# Altium schematic symbol library boxer_pas.SchLib: 33 symbols
Pins are listed as number, name and electrical type; pins without a type are passive.

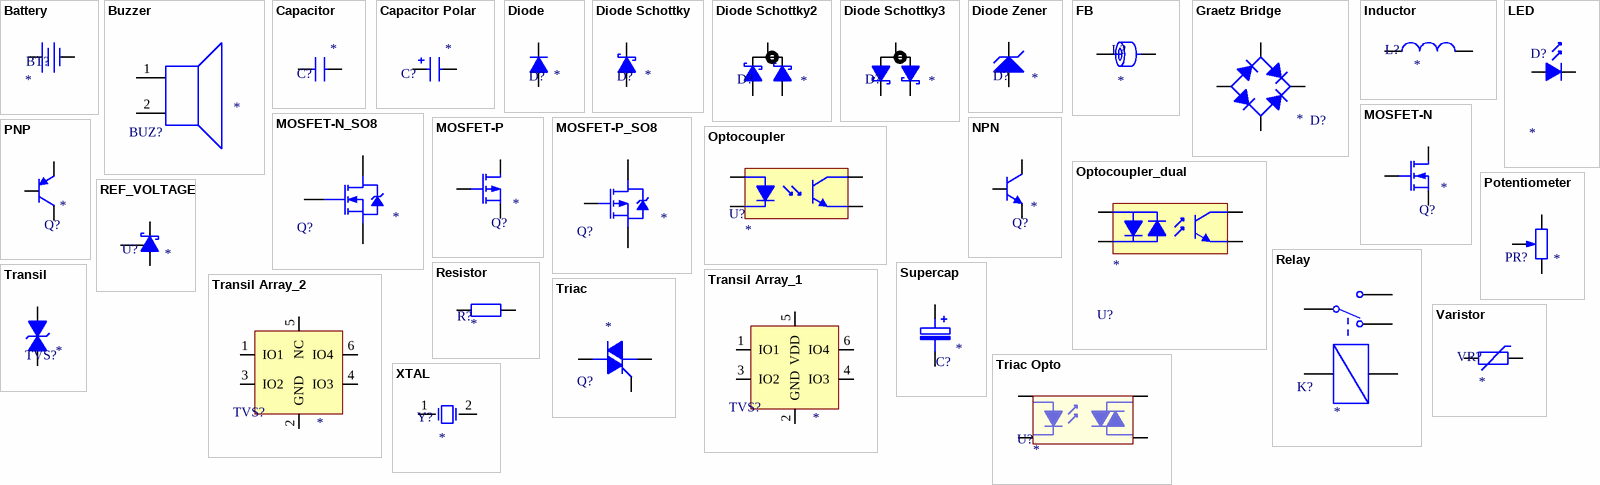
[diagram p0: symbols Battery to XTAL]

## Battery
designator BT?
Multicell Battery; Value: *
footprint CH075-2032 (Battery Holder, Size: CR2023)
pins: 1 +, 2 -

## Buzzer
designator BUZ?
Value: *
footprint buzzer 7.6mm
pins: 1, 2

## Capacitor
designator C?  (value not drawn)
Value: *
simulation model CAP (Capacitor)
signal-integrity model Cap
footprint C_0805 (Chip Capacitor, Body 2.0x1.3mm, IPC High Density)
footprint C_1210 (Chip Capacitor, Body 3.2x2.5mm, IPC High Density)
pins: 1, 2

## Capacitor Polar
designator C?
Polarized Capacitor; Value: *
simulation model CAP (Capacitor)
signal-integrity model Cap Pol
footprint C_SMA (TAJ Series Standard Tantalum)
footprint C_SMB
footprint C_SMC (TAJ Series Standard Tantalum)
pins: 1, 2
1 alternate drawing of the same symbol

## Diode
designator D?
Diode; Value: *
simulation model DIODE (Diode)
signal-integrity model Diode
footprint D_SMA
footprint D_SMC (DO-214-AB/SMC; 2 C-Bend Leads; Body 7.9 x 5.9 mm, inc. leads (LxW))
footprint D_SMB
footprint SOD123F
footprint D_1206
pins: 1 A, 2 K

## Diode Schottky
designator D?, comment Schottky Diode  (value not drawn)
Value: *
simulation model SKYDIODE (Diode)
signal-integrity model D Schottky
footprint D_1206
footprint SOD123F
footprint D_SMA
footprint D_SMB
footprint D_SMC (DO-214-AB/SMC; 2 C-Bend Leads; Body 7.9 x 5.9 mm, inc. leads (LxW))
pins: 1 A, 2 K

## Diode Schottky2
designator D?
dual Schottky diode common cathode; Value: *
footprint SOT-23 (SOT23, 3-Leads, Body 2.9x1.3mm, Pitch 0.95mm, Lead Span 2.5mm, IPC Medium Density)
pins: 1 A, 2 A, 3 K

## Diode Schottky3
designator D?
dual Schottky diode common anode; Value: *
footprint SOT-23 (SOT23, 3-Leads, Body 2.9x1.3mm, Pitch 0.95mm, Lead Span 2.5mm, IPC Medium Density)
pins: 1 A, 2 A, 3 K

## Diode Zener
designator D?
Zener Diode; Value: *
simulation model ZENER (Diode)
signal-integrity model D Zener
footprint D_SMA
footprint D_SMB
footprint D_SMC (DO-214-AB/SMC; 2 C-Bend Leads; Body 7.9 x 5.9 mm, inc. leads (LxW))
footprint SOD123F
footprint D_1206
pins: 1 A, 2 K

## FB
designator L?  (value not drawn)
Ferrite Bead; Value: *
simulation model Inductor
signal-integrity model Inductor
footprint L_0805 (Chip Inductor Body 2.0x1.2mm, IPC Medium Density)
pins: 1, 2

## Graetz Bridge
designator D?  (value not drawn)
Full Wave Diode Bridge; Value: *
footprint DIP-4 (DIP; 4 Leads; Row Spacing 7.62 mm; Pitch 2.54 mm)
simulation model BRIDGE (Spice Subcircuit)
footprint DB10x
pins: 1 K, 2 C, 3 A, 4 C

## Inductor
designator L?
Inductor; Value: *
footprint L_0805 (Chip Inductor Body 2.0x1.2mm, IPC Medium Density)
simulation model INDUCTOR (Inductor)
signal-integrity model Inductor
footprint L_1206
pins: 1, 2

## LED
designator D?  (value not drawn)
Typical RED, GREEN, YELLOW, AMBER GaAs LED; Value: *
footprint LED_0805 (LED; SMD; 0805;)
simulation model LED2 (Diode)
pins: 1 A, 2 K

## MOSFET-N
designator Q?
N-Channel MOSFET; Value: *
footprint SOT-23 (SOT23, 3-Leads, Body 2.9x1.3mm, Pitch 0.95mm, Lead Span 2.5mm, IPC Medium Density)
simulation model NMOS (MOSFET-N)
footprint SO8
pins: 1 G, 2 S, 3 D

## MOSFET-N_SO8
designator Q?
N-Channel MOSFET; Value: *
footprint SO8
pins: 1 S, 2 S, 3 S, 4 G, 5 D, 6 D, 7 D, 8 D

## MOSFET-P
designator Q?
P-Channel MOSFET; Value: *
footprint SO6
simulation model PMOS (MOSFET-P)
footprint SOT-23 (SOT23, 3-Leads, Body 2.9x1.3mm, Pitch 0.95mm, Lead Span 2.5mm, IPC Medium Density)
pins: 1 G, 2 S, 3 D

## MOSFET-P_SO8
designator Q?
P-Channel MOSFET; Value: *
footprint SO8
pins: 1 S, 2 S, 3 S, 4 G, 5 D, 6 D, 7 D, 8 D

## NPN
designator Q?
NPN Bipolar Transistor; Value: *
footprint TO-92 (TO, Flat Index; 3 In-Line, Axial Leads; Body Dia. 4.6mm; Leads 0.41 x 0.39 mm (max))
simulation model NPN
signal-integrity model NPN
footprint SOT-23 (SOT23, 3-Leads, Body 2.9x1.3mm, Pitch 0.95mm, Lead Span 2.5mm, IPC Medium Density)
pins: 1 B, 2 E, 3 C

## Optocoupler
designator U?
Optocoupler; Value: *
footprint DIP-4 (DIP; 4 Leads; Row Spacing 7.62 mm; Pitch 2.54 mm)
footprint SOP6 (Small Outline; 6 Leads; Body Width 4.4 mm; Pitch 1.27 mm)
footprint SO4
pins: 1 A, 2 K, 3 C, 4 E

## Optocoupler_dual
designator U?
dual Optocoupler; Value: *
footprint DIP-4 (DIP; 4 Leads; Row Spacing 7.62 mm; Pitch 2.54 mm)
simulation model OPTOISO (Spice Subcircuit)
pins: 1 A, 2 K, 4 E, 5 C

## PNP
designator Q?
PNP; Value: *
simulation model PNP
signal-integrity model PNP
footprint SOT-23 (SOT23, 3-Leads, Body 2.9x1.3mm, Pitch 0.95mm, Lead Span 2.5mm, IPC Medium Density)
footprint TO-92 (TO, Flat Index; 3 In-Line, Axial Leads; Body Dia. 4.5mm; Leads 0.51 x 0.48 mm (max))
pins: 1 B, 2 E, 3 C

## Potentiometer
designator PR?
3 pin Potentiometer
footprint 1804 potentiometer
pins: 1 BOT, 2 TAP, 3 TOP

## REF_VOLTAGE
designator U?
Value: *
footprint SOT-23 (SOT23, 3-Leads, Body 2.9x1.3mm, Pitch 0.95mm, Lead Span 2.5mm, IPC Medium Density)
pins: 1 REF, 2 K, 3 A

## Relay
designator K?
Electromagnetic Relay; Value: *
footprint RM32N
pins: 1 A1, 2 A2, 3 12, 4 11, 5 14

## Resistor
designator R?
Resistor; Value: *
footprint R_0805 (Chip Resistor, Body 2.0x1.2mm, IPC Medium Density)
simulation model RESISTOR (Resistor)
signal-integrity model Res
footprint R_1206
pins: 1, 2

## Supercap
designator C?
Super Capacitor
footprint CAPPR5-12.5x25 (Capacitor, Electrolytic, Radial; Body 12.5 x 25 mm (Dia.xH typ); Pin Spacing 5 mm (typ))
pins: 1, 2

## Transil
designator TVS?
Transil; Value: *
footprint D_1206
footprint SOD123F
footprint D_SMA
footprint D_SMB
footprint D_SMC (DO-214-AB/SMC; 2 C-Bend Leads; Body 7.9 x 5.9 mm, inc. leads (LxW))
pins: 1 A, 2 K

## Transil Array_1
designator TVS?
TVS Array; Value: *
footprint SOT-363
pins: 1 IO1, 2 GND (power), 3 IO2, 4 IO3, 5 VDD (power), 6 IO4

## Transil Array_2
designator TVS?
TVS Array; Value: *
footprint SOT23-6 (SOT23, 6-Leads, Body 2.9x1.6mm, Pitch 0.95mm, Lead Span 2.7mm, IPC Medium Density)
pins: 1 IO1, 2 GND (power), 3 IO2, 4 IO3, 5 NC, 6 IO4

## Triac
designator Q?
Triac; Value: *
footprint TO-247 (SIP with Mounting Hole; 3 Leads; Body 20 x 15.6 x 5 mm (typ); Pitch 5.45 mm)
pins: 1 M1, 2 M2, 3 G

## Triac Opto
designator U?
Opto-Triac; Value: *
footprint DIP-6 (DIP; 6 Leads; Row Spacing 7.62 mm; Pitch 2.54 mm)
footprint SOP6 (Small Outline; 6 Leads; Body Width 4.4 mm; Pitch 1.27 mm)
pins: 1 A, 2 K, 4 A/K, 6 A/K

## Varistor
designator VR?
Value: *
pins: 1, 2

## XTAL
designator Y?
Crystal Oscillator; Value: *
footprint CFPX_217 (3.2 x 1.5mm SMD crystal)
simulation model XTAL (Spice Subcircuit)
pins: 1 OSC1, 2 OSC2